# Altium schematic symbol library SY89297UMG-TR.SchLib: 1 symbol
Pins are listed as number, name and electrical type; pins without a type are passive.

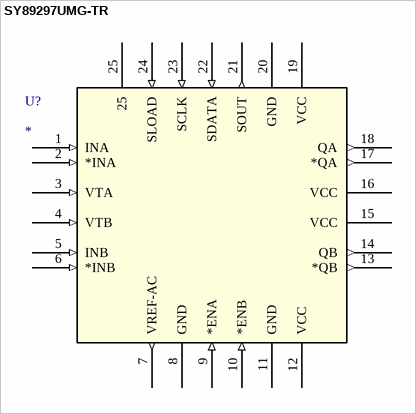
[diagram p0: symbol SY89297UMG-TR]

## SY89297UMG-TR
designator U?
No Description Available; Mfr_Name: Microchip; RefDes: RefDes; Type: Type
footprint QFN-24_MCH-L
pins: 1 INA (in), 2 *INA (in), 3 VTA (in), 4 VTB (in), 5 INB (in), 6 *INB (in), 7 VREF-AC (out), 8 GND (power), 9 *ENA (in), 10 *ENB (in), 11 GND (power), 12 VCC (power), 13 *QB (out), 14 QB (out), 15 VCC (power), 16 VCC (power), 17 *QA (out), 18 QA (out), 19 VCC (power), 20 GND (power), 21 SOUT (out), 22 SDATA (in), 23 SCLK (in), 24 SLOAD (in), 25